# EAGLE library part HEADER-8P (library - Jins eagle lbr)
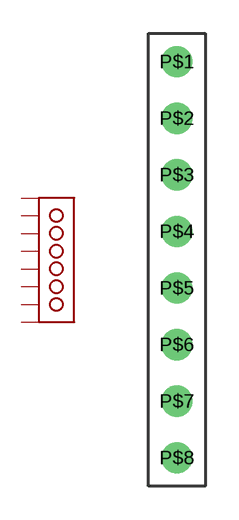
[diagram p16: symbol with the pads of HEADER-8P; footprint HEADER-8P]

Designator prefix H

## HEADER-8P  [HEADER-8P]
P$1  P$1
P$2  P$2
P$3  P$3
P$4  P$4
P$5  P$5
P$6  P$6
P$7  P$7
P$8  P$8

## Footprint HEADER-8P (pad centres in mm)
drill 0.8 pad 1.4: P$1 0,7.62; P$2 0,5.08; P$3 0,2.54; P$4 0,0; P$5 0,-2.54; P$6 0,-5.08; P$7 0,-7.62; P$8 0,-10.16